# Altium schematic symbol library AD8655ARZ.SchLib: 1 symbol
Pins are listed as number, name and electrical type; pins without a type are passive.

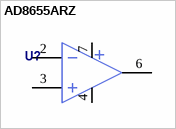
[diagram p0: symbol AD8655ARZ]

## AD8655ARZ
designator U?  (value not drawn)
pins: 2 IN-, 3 IN+, 4 GND (power), 6 OUT, 7 VDD (power)